# EAGLE library part ADA31855MAX (library Proofing Box Library)
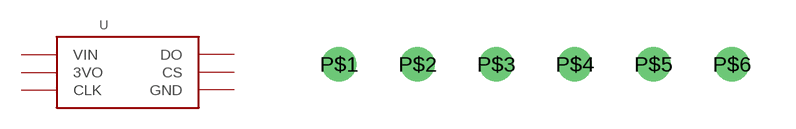
[diagram p1: symbol with the pads of ADA31855MAX; footprint ADA31855MAX]

Designator prefix -

## ADA31855MAX  [ADA31855MAX]
P$1  VIN
P$2  3VO
P$3  GND
P$4  DO
P$5  CS
P$6  CLK

## Footprint ADA31855MAX (pad centres in mm)
drill 0.6: P$1 -7.62,-7.62; P$2 -5.08,-7.62; P$3 -2.54,-7.62; P$4 0,-7.62; P$5 2.54,-7.62; P$6 5.08,-7.62